# EAGLE library part RHP1001 (library harrison)
Intan Technologies RHP1001 patch clamp chip (QFN-48 package)
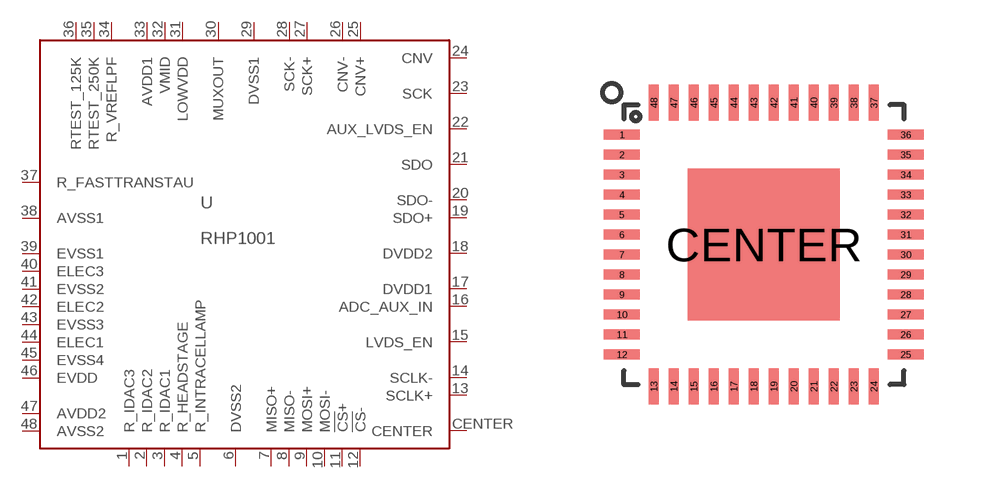
[diagram p84: symbol with the pads of QFN48_7_X_7_LARGE; footprint QFN48_7_X_7_LARGE]

Designator prefix U

## RHP1001_QFN  [QFN48_7_X_7_LARGE]
1  R_IDAC3  pas
2  R_IDAC2  pas
3  R_IDAC1  pas
4  R_HEADSTAGE  pas
5  R_INTRACELLAMP  pas
6  DVSS2  pwr
7  MISO+  out
8  MISO-  out
9  MOSI+  in
10  MOSI-  in
11  !CS!+  in
12  !CS!-  in
13  SCLK+  in
14  SCLK-  in
15  LVDS_EN  in
16  ADC_AUX_IN  in
17  DVDD1  pwr
18  DVDD2  pwr
19  SDO+  out
20  SDO-  out
21  SDO  in
22  AUX_LVDS_EN  in
23  SCK  out
24  CNV  out
25  CNV+  in
26  CNV-  in
27  SCK+  in
28  SCK-  in
29  DVSS1  pwr
30  MUXOUT  out
31  LOWVDD  pwr
32  VMID  pwr
33  AVDD1  pwr
34  R_VREFLPF  pas
35  RTEST_250K  pas
36  RTEST_125K  pas
37  R_FASTTRANSTAU  pas
38  AVSS1  pwr
39  EVSS1  pwr
40  ELEC3  in
41  EVSS2  pwr
42  ELEC2  in
43  EVSS3  pwr
44  ELEC1  in
45  EVSS4  pwr
46  EVDD  pwr
47  AVDD2  pwr
48  AVSS2  pwr
CENTER  CENTER  pwr

## Footprint QFN48_7_X_7_LARGE (pad centres in mm)
smd 0.9 x 0.25: 1 -3.55,2.75; 2 -3.55,2.25; 3 -3.55,1.75; 4 -3.55,1.25; 5 -3.55,0.75; 6 -3.55,0.25; 7 -3.55,-0.25; 8 -3.55,-0.75; 9 -3.55,-1.25; 10 -3.55,-1.75; 11 -3.55,-2.25; 12 -3.55,-2.75; 25 3.55,-2.75; 26 3.55,-2.25; 27 3.55,-1.75; 28 3.55,-1.25; 29 3.55,-0.75; 30 3.55,-0.25; 31 3.55,0.25; 32 3.55,0.75; 33 3.55,1.25; 34 3.55,1.75; 35 3.55,2.25; 36 3.55,2.75
smd 0.25 x 0.9: 13 -2.75,-3.55; 14 -2.25,-3.55; 15 -1.75,-3.55; 16 -1.25,-3.55; 17 -0.75,-3.55; 18 -0.25,-3.55; 19 0.25,-3.55; 20 0.75,-3.55; 21 1.25,-3.55; 22 1.75,-3.55; 23 2.25,-3.55; 24 2.75,-3.55; 37 2.75,3.55; 38 2.25,3.55; 39 1.75,3.55; 40 1.25,3.55; 41 0.75,3.55; 42 0.25,3.55; 43 -0.25,3.55; 44 -0.75,3.55; 45 -1.25,3.55; 46 -1.75,3.55; 47 -2.25,3.55; 48 -2.75,3.55
smd 3.8 x 3.8: CENTER 0,0